# Altium schematic symbol library Rising Clamp System WR-TBL_7.00 mm.SchLib: 22 symbols
Pins are listed as number, name and electrical type; pins without a type are passive.

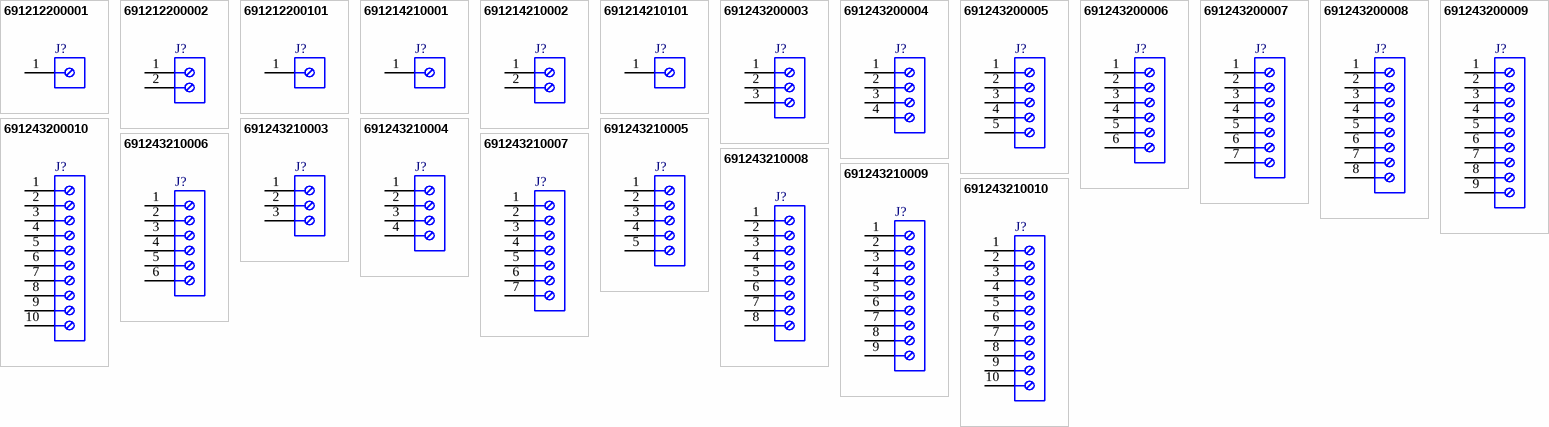
[diagram p0: symbols 691212200001 to 691243210010]

## 691212200001
designator J?
Serie 2122 - 7.00 mm Vertical Entry with Rising Cage Clamp WR-TBL, 1 pin; Part Number: 691212200001; Pin Number: 1; Pitch: 7.00 mm; ComponentLink1Description: Manufacturer; ComponentLink1URL: http://www.we-online.de; ComponentLink2Description: Datasheet; ComponentLink2URL: http://katalog.we-online.de/em/datasheet/6912122000xx.pdf; Published Date: June 2018; Publisher: Wurth Elektronik; Operating Temperature: -30 to 120 degC; Mounting Technology: THT; Packaging: Box
footprint 691212200001
pins: 1

## 691212200002
designator J?
Serie 2122 - 7.00 mm Vertical Entry with Rising Cage Clamp WR-TBL, 2 pin; Part Number: 691212200002; Pin Number: 2; Pitch: 7.00 mm; ComponentLink1Description: Manufacturer; ComponentLink1URL: http://www.we-online.de; ComponentLink2Description: Datasheet; ComponentLink2URL: http://katalog.we-online.de/em/datasheet/6912122000xx.pdf; Published Date: June 2018; Publisher: Wurth Elektronik; Operating Temperature: -30 to 120 degC; Mounting Technology: THT; Packaging: Box
footprint 691212200002
pins: 1, 2

## 691212200101
designator J?
Serie 2122 - 7.00 mm Vertical Entry with Rising Cage Clamp WR-TBL, 1 pin; Part Number: 691212200101; Pin Number: 1; Pitch: 7.00 mm; ComponentLink1Description: Manufacturer; ComponentLink1URL: http://www.we-online.de; ComponentLink2Description: Datasheet; ComponentLink2URL: http://katalog.we-online.de/em/datasheet/6912122000xx.pdf; Published Date: June 2018; Publisher: Wurth Elektronik; Operating Temperature: -30 to 120 degC; Mounting Technology: THT; Packaging: Box
footprint 691212200101
pins: 1

## 691214210001
designator J?
Serie 2142 - 7.00 mm Horizontal Entry with Rising Cage Clamp WR-TBL, 1 pin; Part Number: 691214210001; Pin Number: 1; Pitch: 7.00 mm; ComponentLink1Description: Manufacturer; ComponentLink1URL: http://www.we-online.de; ComponentLink2Description: Datasheet; ComponentLink2URL: http://katalog.we-online.de/em/datasheet/6912142100xx.pdf; Published Date: June 2018; Publisher: Wurth Elektronik; Operating Temperature: -30 to 120 degC; Mounting Technology: THT; Packaging: Box
footprint 691214210001
pins: 1

## 691214210002
designator J?
Serie 2142 - 7.00 mm Horizontal Entry with Rising Cage Clamp WR-TBL, 2 pin; Part Number: 691214210002; Pin Number: 2; Pitch: 7.00 mm; ComponentLink1Description: Manufacturer; ComponentLink1URL: http://www.we-online.de; ComponentLink2Description: Datasheet; ComponentLink2URL: http://katalog.we-online.de/em/datasheet/6912142100xx.pdf; Published Date: June 2018; Publisher: Wurth Elektronik; Operating Temperature: -30 to 120 degC; Mounting Technology: THT; Packaging: Box
footprint 691214210002
pins: 1, 2

## 691214210101
designator J?
Serie 2142 - 7.00 mm Horizontal Entry with Rising Cage Clamp WR-TBL, 1 pin; Part Number: 691214210101; Pin Number: 1; Pitch: 7.00 mm; ComponentLink1Description: Manufacturer; ComponentLink1URL: http://www.we-online.de; ComponentLink2Description: Datasheet; ComponentLink2URL: http://katalog.we-online.de/em/datasheet/6912142100xx.pdf; Published Date: June 2018; Publisher: Wurth Elektronik; Operating Temperature: -30 to 120 degC; Mounting Technology: THT; Packaging: Box
footprint 691214210101
pins: 1

## 691243200003
designator J?
Serie 2432 - 7.00 mm Vertical Entry Modular with Rising Cage Clamp WR-TBL, 3 pin; Part Number: 691243200003; Pin Number: 3; Pitch: 7.00 mm; ComponentLink1Description: Manufacturer; ComponentLink1URL: http://www.we-online.de; ComponentLink2Description: Datasheet; ComponentLink2URL: http://katalog.we-online.de/em/datasheet/6912432000xx.pdf; Published Date: June 2018; Publisher: Wurth Elektronik; Operating Temperature: -30 to 120 degC; Mounting Technology: THT; Packaging: Box
footprint 691243200003
pins: 1, 2, 3

## 691243200004
designator J?
Serie 2432 - 7.00 mm Vertical Entry Modular with Rising Cage Clamp WR-TBL, 4 pin; Part Number: 691243200004; Pin Number: 4; Pitch: 7.00 mm; ComponentLink1Description: Manufacturer; ComponentLink1URL: http://www.we-online.de; ComponentLink2Description: Datasheet; ComponentLink2URL: http://katalog.we-online.de/em/datasheet/6912432000xx.pdf; Published Date: June 2018; Publisher: Wurth Elektronik; Operating Temperature: -30 to 120 degC; Mounting Technology: THT; Packaging: Box
footprint 691243200004
pins: 1, 2, 3, 4

## 691243200005
designator J?
Serie 2432 - 7.00 mm Vertical Entry Modular with Rising Cage Clamp WR-TBL, 5 pin; Part Number: 691243200005; Pin Number: 5; Pitch: 7.00 mm; ComponentLink1Description: Manufacturer; ComponentLink1URL: http://www.we-online.de; ComponentLink2Description: Datasheet; ComponentLink2URL: http://katalog.we-online.de/em/datasheet/6912432000xx.pdf; Published Date: June 2018; Publisher: Wurth Elektronik; Operating Temperature: -30 to 120 degC; Mounting Technology: THT; Packaging: Box
footprint 691243200005
pins: 1, 2, 3, 4, 5

## 691243200006
designator J?
Serie 2432 - 7.00 mm Vertical Entry Modular with Rising Cage Clamp WR-TBL, 6 pin; Part Number: 691243200006; Pin Number: 6; Pitch: 7.00 mm; ComponentLink1Description: Manufacturer; ComponentLink1URL: http://www.we-online.de; ComponentLink2Description: Datasheet; ComponentLink2URL: http://katalog.we-online.de/em/datasheet/6912432000xx.pdf; Published Date: June 2018; Publisher: Wurth Elektronik; Operating Temperature: -30 to 120 degC; Mounting Technology: THT; Packaging: Box
footprint 691243200006
pins: 1, 2, 3, 4, 5, 6

## 691243200007
designator J?
Serie 2432 - 7.00 mm Vertical Entry Modular with Rising Cage Clamp WR-TBL, 7 pin; Part Number: 691243200007; Pin Number: 7; Pitch: 7.00 mm; ComponentLink1Description: Manufacturer; ComponentLink1URL: http://www.we-online.de; ComponentLink2Description: Datasheet; ComponentLink2URL: http://katalog.we-online.de/em/datasheet/6912432000xx.pdf; Published Date: June 2018; Publisher: Wurth Elektronik; Operating Temperature: -30 to 120 degC; Mounting Technology: THT; Packaging: Box
footprint 691243200007
pins: 1, 2, 3, 4, 5, 6, 7

## 691243200008
designator J?
Serie 2432 - 7.00 mm Vertical Entry Modular with Rising Cage Clamp WR-TBL, 8 pin; Part Number: 691243200008; Pin Number: 8; Pitch: 7.00 mm; ComponentLink1Description: Manufacturer; ComponentLink1URL: http://www.we-online.de; ComponentLink2Description: Datasheet; ComponentLink2URL: http://katalog.we-online.de/em/datasheet/6912432000xx.pdf; Published Date: June 2018; Publisher: Wurth Elektronik; Operating Temperature: -30 to 120 degC; Mounting Technology: THT; Packaging: Box
footprint 691243200008
pins: 1, 2, 3, 4, 5, 6, 7, 8

## 691243200009
designator J?
Serie 2432 - 7.00 mm Vertical Entry Modular with Rising Cage Clamp WR-TBL, 9 pin; Part Number: 691243200009; Pin Number: 9; Pitch: 7.00 mm; ComponentLink1Description: Manufacturer; ComponentLink1URL: http://www.we-online.de; ComponentLink2Description: Datasheet; ComponentLink2URL: http://katalog.we-online.de/em/datasheet/6912432000xx.pdf; Published Date: June 2018; Publisher: Wurth Elektronik; Operating Temperature: -30 to 120 degC; Mounting Technology: THT; Packaging: Box
footprint 691243200009
pins: 1, 2, 3, 4, 5, 6, 7, 8, 9

## 691243200010
designator J?
Serie 2432 - 7.00 mm Vertical Entry Modular with Rising Cage Clamp WR-TBL, 10 pin; Part Number: 691243200010; Pin Number: 10; Pitch: 7.00 mm; ComponentLink1Description: Manufacturer; ComponentLink1URL: http://www.we-online.de; ComponentLink2Description: Datasheet; ComponentLink2URL: http://katalog.we-online.de/em/datasheet/6912432000xx.pdf; Published Date: June 2018; Publisher: Wurth Elektronik; Operating Temperature: -30 to 120 degC; Mounting Technology: THT; Packaging: Box
footprint 691243200010
pins: 1, 2, 3, 4, 5, 6, 7, 8, 9, 10

## 691243210003
designator J?
Serie 2432 - 7.00 mm Horizontal Entry Modular with Rising Cage Clamp WR-TBL, 3 pin; Part Number: 691243210003; Pin Number: 3; Pitch: 7.00 mm; ComponentLink1Description: Manufacturer; ComponentLink1URL: http://www.we-online.de; ComponentLink2Description: Datasheet; ComponentLink2URL: http://katalog.we-online.de/em/datasheet/6912432100xx.pdf; Published Date: June 2018; Publisher: Wurth Elektronik; Operating Temperature: -30 to 120 degC; Mounting Technology: THT; Packaging: Box
footprint 691243210003
pins: 1, 2, 3

## 691243210004
designator J?
Serie 2432 - 7.00 mm Horizontal Entry Modular with Rising Cage Clamp WR-TBL, 4 pin; Part Number: 691243210004; Pin Number: 4; Pitch: 7.00 mm; ComponentLink1Description: Manufacturer; ComponentLink1URL: http://www.we-online.de; ComponentLink2Description: Datasheet; ComponentLink2URL: http://katalog.we-online.de/em/datasheet/6912432100xx.pdf; Published Date: June 2018; Publisher: Wurth Elektronik; Operating Temperature: -30 to 120 degC; Mounting Technology: THT; Packaging: Box
footprint 691243210004
pins: 1, 2, 3, 4

## 691243210005
designator J?
Serie 2432 - 7.00 mm Horizontal Entry Modular with Rising Cage Clamp WR-TBL, 5 pin; Part Number: 691243210005; Pin Number: 5; Pitch: 7.00 mm; ComponentLink1Description: Manufacturer; ComponentLink1URL: http://www.we-online.de; ComponentLink2Description: Datasheet; ComponentLink2URL: http://katalog.we-online.de/em/datasheet/6912432100xx.pdf; Published Date: June 2018; Publisher: Wurth Elektronik; Operating Temperature: -30 to 120 degC; Mounting Technology: THT; Packaging: Box
footprint 691243210005
pins: 1, 2, 3, 4, 5

## 691243210006
designator J?
Serie 2432 - 7.00 mm Horizontal Entry Modular with Rising Cage Clamp WR-TBL, 6 pin; Part Number: 691243210006; Pin Number: 6; Pitch: 7.00 mm; ComponentLink1Description: Manufacturer; ComponentLink1URL: http://www.we-online.de; ComponentLink2Description: Datasheet; ComponentLink2URL: http://katalog.we-online.de/em/datasheet/6912432100xx.pdf; Published Date: June 2018; Publisher: Wurth Elektronik; Operating Temperature: -30 to 120 degC; Mounting Technology: THT; Packaging: Box
footprint 691243210006
pins: 1, 2, 3, 4, 5, 6

## 691243210007
designator J?
Serie 2432 - 7.00 mm Horizontal Entry Modular with Rising Cage Clamp WR-TBL, 7 pin; Part Number: 691243210007; Pin Number: 7; Pitch: 7.00 mm; ComponentLink1Description: Manufacturer; ComponentLink1URL: http://www.we-online.de; ComponentLink2Description: Datasheet; ComponentLink2URL: http://katalog.we-online.de/em/datasheet/6912432100xx.pdf; Published Date: June 2018; Publisher: Wurth Elektronik; Operating Temperature: -30 to 120 degC; Mounting Technology: THT; Packaging: Box
footprint 691243210007
pins: 1, 2, 3, 4, 5, 6, 7

## 691243210008
designator J?
Serie 2432 - 7.00 mm Horizontal Entry Modular with Rising Cage Clamp WR-TBL, 8 pin; Part Number: 691243210008; Pin Number: 8; Pitch: 7.00 mm; ComponentLink1Description: Manufacturer; ComponentLink1URL: http://www.we-online.de; ComponentLink2Description: Datasheet; ComponentLink2URL: http://katalog.we-online.de/em/datasheet/6912432100xx.pdf; Published Date: June 2018; Publisher: Wurth Elektronik; Operating Temperature: -30 to 120 degC; Mounting Technology: THT; Packaging: Box
footprint 691243210008
pins: 1, 2, 3, 4, 5, 6, 7, 8

## 691243210009
designator J?
Serie 2432 - 7.00 mm Horizontal Entry Modular with Rising Cage Clamp WR-TBL, 9 pin; Part Number: 691243210009; Pin Number: 9; Pitch: 7.00 mm; ComponentLink1Description: Manufacturer; ComponentLink1URL: http://www.we-online.de; ComponentLink2Description: Datasheet; ComponentLink2URL: http://katalog.we-online.de/em/datasheet/6912432100xx.pdf; Published Date: June 2018; Publisher: Wurth Elektronik; Operating Temperature: -30 to 120 degC; Mounting Technology: THT; Packaging: Box
footprint 691243210009
pins: 1, 2, 3, 4, 5, 6, 7, 8, 9

## 691243210010
designator J?
Serie 2432 - 7.00 mm Horizontal Entry Modular with Rising Cage Clamp WR-TBL, 10 pin; Part Number: 691243210010; Pin Number: 10; Pitch: 7.00 mm; ComponentLink1Description: Manufacturer; ComponentLink1URL: http://www.we-online.de; ComponentLink2Description: Datasheet; ComponentLink2URL: http://katalog.we-online.de/em/datasheet/6912432100xx.pdf; Published Date: June 2018; Publisher: Wurth Elektronik; Operating Temperature: -30 to 120 degC; Mounting Technology: THT; Packaging: Box
footprint 691243210010
pins: 1, 2, 3, 4, 5, 6, 7, 8, 9, 10